# EAGLE library part RF6555 (library KW2)
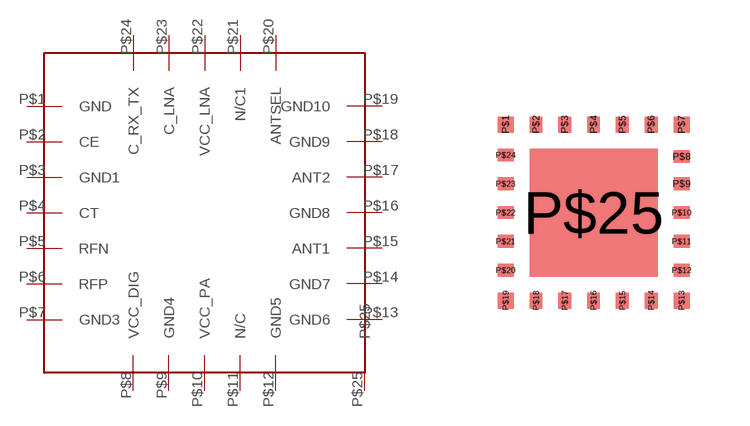
[diagram p2: symbol with the pads of RF6555; footprint RF6555]

Designator prefix -

## RF6555  [RF6555]
P$1  GND
P$2  CE
P$3  GND1
P$4  CT
P$5  RFN
P$6  RFP
P$7  GND3
P$8  VCC_DIG
P$9  GND4
P$10  VCC_PA
P$11  N/C
P$12  GND5
P$13  GND6
P$14  GND7
P$15  ANT1
P$16  GND8
P$17  ANT2
P$18  GND9
P$19  GND10
P$20  ANTSEL
P$21  N/C1
P$22  VCC_LNA
P$23  C_LNA
P$24  C_RX_TX
P$25  P$25

## Footprint RF6555 (pad centres in mm)
smd 0.4 x 0.4: P$1 -2.2,2.2; P$7 2.2,2.2; P$13 2.2,-2.2; P$19 -2.2,-2.2
smd 0.32 x 0.4: P$2 -1.44,2.2; P$3 -0.72,2.2; P$4 0,2.2; P$5 0.72,2.2; P$6 1.44,2.2; P$14 1.44,-2.2; P$15 0.72,-2.2; P$16 0,-2.2; P$17 -0.72,-2.2; P$18 -1.44,-2.2
smd 0.4 x 0.32: P$8 2.2,1.4; P$9 2.2,0.72; P$10 2.2,0; P$11 2.2,-0.72; P$12 2.2,-1.44; P$20 -2.2,-1.44; P$21 -2.2,-0.72; P$22 -2.2,0; P$23 -2.2,0.72; P$24 -2.2,1.44
smd 3.2 x 3.2: P$25 0,0